# EAGLE library part HIROSE_DF17_70_ONESIDE (library greghale_eib_preamp)
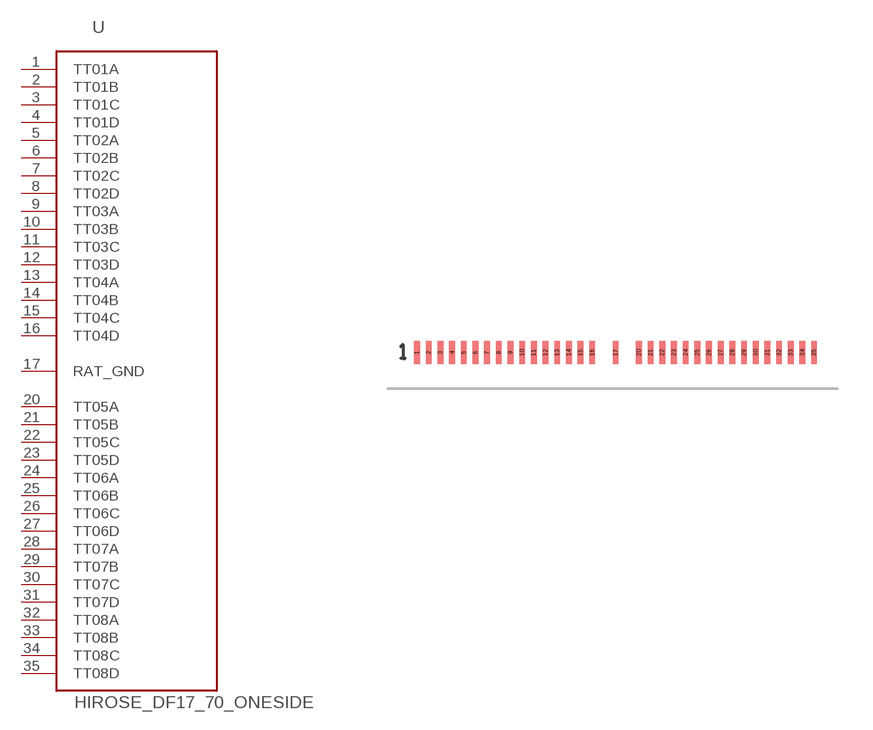
[diagram p9: symbol with the pads of HIROSE_DF17_70_ONESIDE; footprint HIROSE_DF17_70_ONESIDE]

Designator prefix -

## HIROSE_DF17_70_ONESIDEOS  [HIROSE_DF17_70_ONESIDE]
1  TT01A
2  TT01B
3  TT01C
4  TT01D
5  TT02A
6  TT02B
7  TT02C
8  TT02D
9  TT03A
10  TT03B
11  TT03C
12  TT03D
13  TT04A
14  TT04B
15  TT04C
16  TT04D
17  RAT_GND
20  TT05A
21  TT05B
22  TT05C
23  TT05D
24  TT06A
25  TT06B
26  TT06C
27  TT06D
28  TT07A
29  TT07B
30  TT07C
31  TT07D
32  TT08A
33  TT08B
34  TT08C
35  TT08D

## Footprint HIROSE_DF17_70_ONESIDE (pad centres in mm)
smd 0.25 x 1: 1 -8.48,0.1; 2 -7.98,0.1; 3 -7.48,0.1; 4 -6.98,0.1; 5 -6.48,0.1; 6 -5.98,0.1; 7 -5.48,0.1; 8 -4.98,0.1; 9 -4.48,0.1; 10 -3.98,0.1; 11 -3.48,0.1; 12 -2.98,0.1; 13 -2.48,0.1; 14 -1.98,0.1; 15 -1.48,0.1; 16 -0.98,0.1; 17 0.02,0.1; 20 1.02,0.1; 21 1.52,0.1; 22 2.02,0.1; 23 2.52,0.1; 24 3.02,0.1; 25 3.52,0.1; 26 4.02,0.1; 27 4.52,0.1; 28 5.02,0.1; 29 5.52,0.1; 30 6.02,0.1; 31 6.52,0.1; 32 7.02,0.1; 33 7.52,0.1; 34 8.02,0.1; 35 8.52,0.1